# Altium integrated library Maxim Analog Comparator.IntLib: 215 symbols (part 5 of 5)
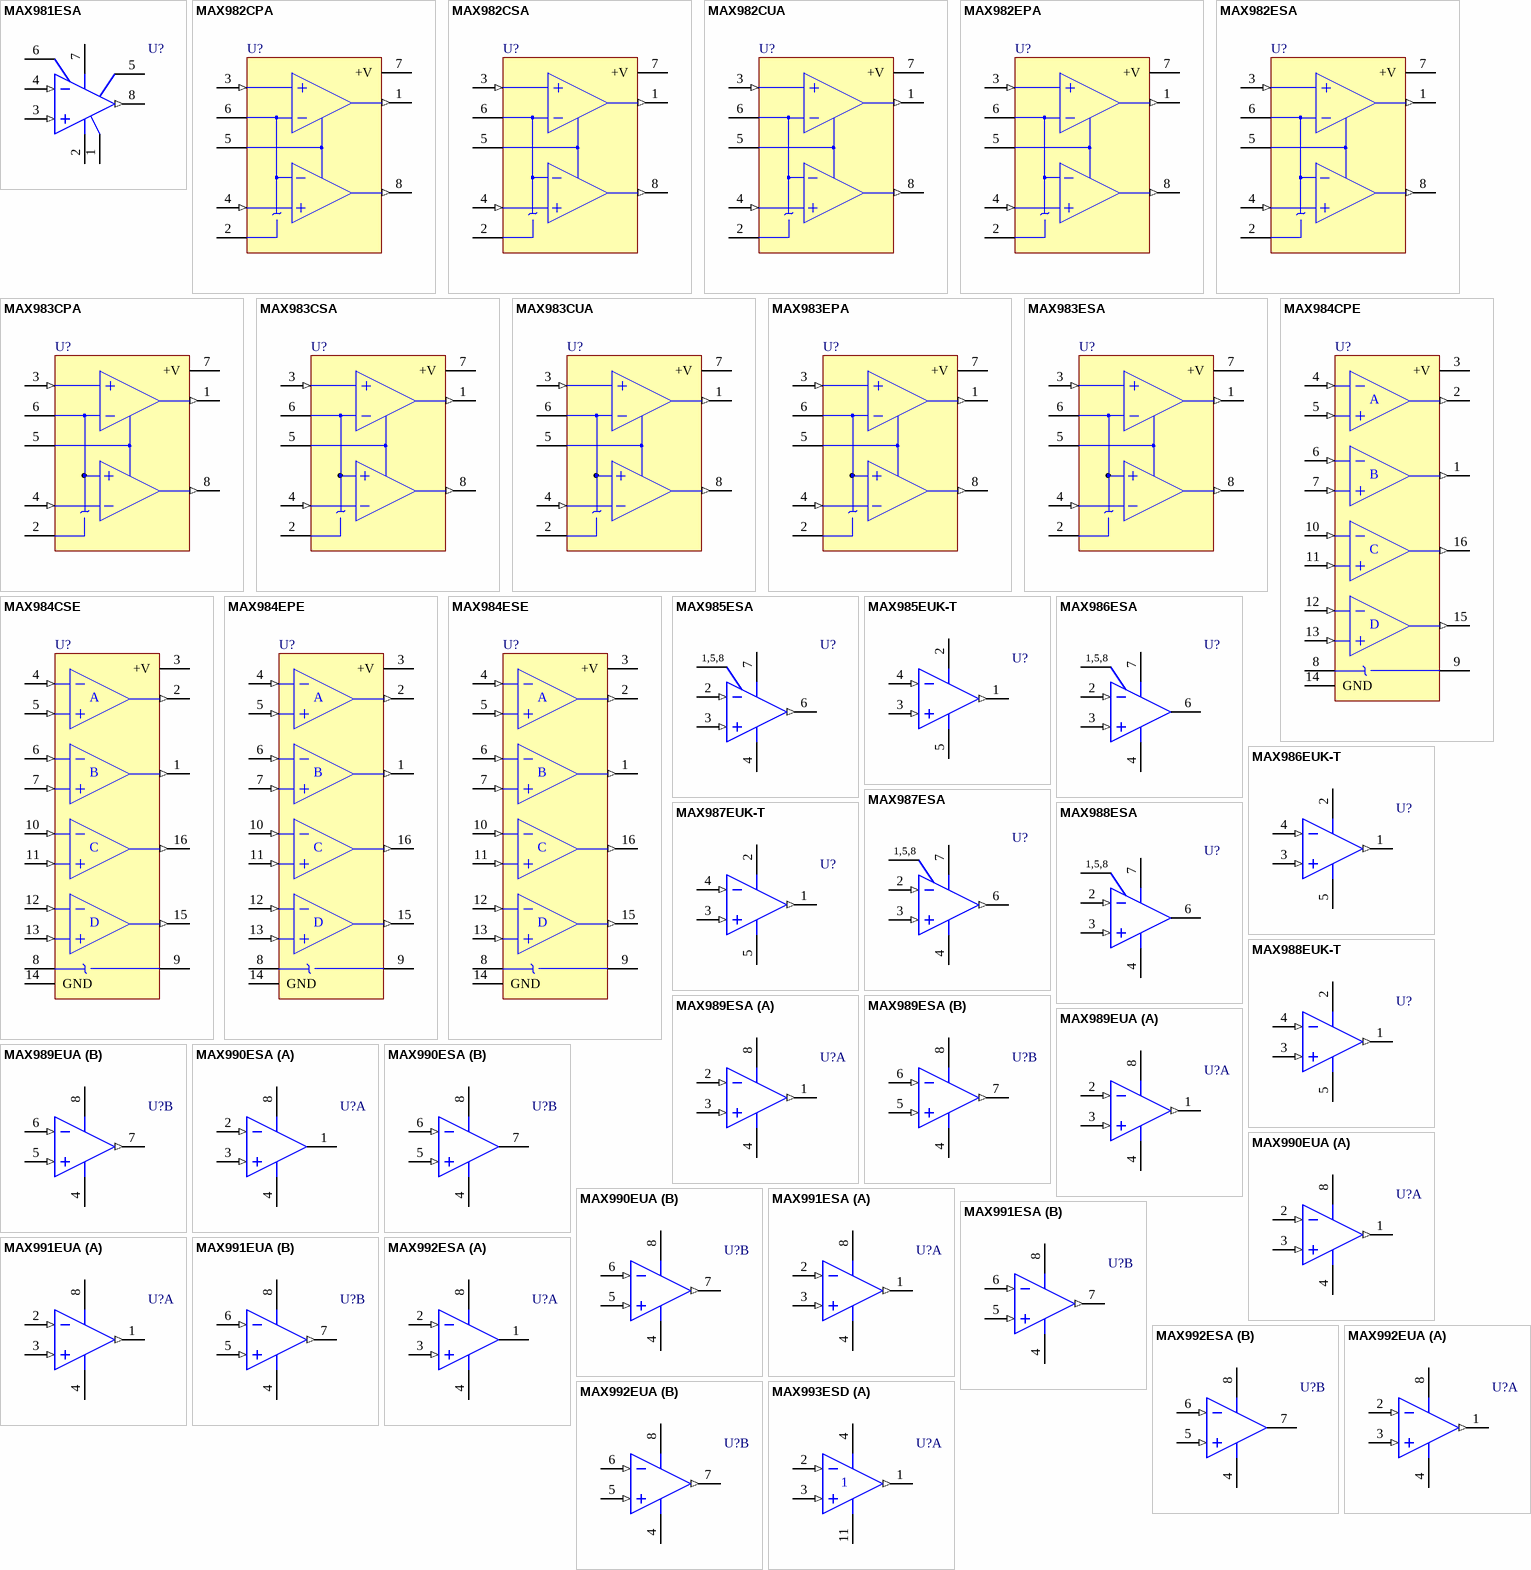
[diagram p13: symbols MAX981ESA to MAX993ESD]

## MAX990EUA
designator U?
Micropower, Low-Voltage, SOT23, Rail-to-Rail I/O Comparator; Published: 23-Sep-2002; LatestRevisionDate: 29-May-2009; LatestRevisionNote: IPC-7351 Footprint Added.; DatasheetVersion: Rev 1; 7/97; PackageReference: UMAX8; Publisher: Altium Limited; PackageDescription: 8-Pin Thin Small Outline Package 0.65 mm Pitch; ComponentLink1Description: Manufacturer Link; ComponentLink1URL: http://www.maxim-ic.com/; ComponentLink2Description: Datasheet; ComponentLink2URL: http://pdfserv.maxim-ic.com/en/ds/MAX985-MAX994.pdf
footprint UMAX8_N (TSOP, 8-Leads, Body 3x3mm, Pitch 0.65mm, IPC Medium Density)
footprint UMAX8_L (TSOP, 8-Leads, Body 3x3mm, Pitch 0.65mm, IPC High Density)
footprint UMAX8_M (TSOP, 8-Leads, Body 3x3mm, Pitch 0.65mm, IPC Low Density)
3D model UMAX8 (8-Pin Thin Small Outline Package 0.65 mm Pitch)
simulation model MAX990 (SUBCKT)
pins on every part: 4 VEE (power), 8 VCC (power)
part A pins: 1 OUT (out), 2 IN- (in), 3 IN+ (in)
part B pins: 5 IN+ (in), 6 IN- (in), 7 OUT (out)

## MAX991ESA
designator U?
High-Speed, Micropower, Low-Voltage, SOT23, Rail-to-Rail I/O Comparator; Published: 23-Sep-2002; LatestRevisionDate: 13-Apr-2006; LatestRevisionNote: IPC-7351 Footprint Added.; DatasheetVersion: Rev 0b; 7/97; PackageReference: NSO8; Publisher: Altium Limited; PackageDescription: 8-Pin Small Outline Integrated Circuit 1.27 mm Pitch; Code_JEDEC: MS-012-AA; Code_IPC: SOIC127P600-8; ComponentLink1Description: Manufacturer Link; ComponentLink1URL: http://www.maxim-ic.com/; ComponentLink2Description: Datasheet; ComponentLink2URL: http://pdfserv.maxim-ic.com/en/ds/MAX987-MAX996.pdf
footprint NSO8_N (SOIC, 8-Leads, Body 4.9x3.9mm, Pitch 1.27mm, IPC Medium Density)
footprint NSO8_L (SOIC, 8-Leads, Body 4.9x3.9mm, Pitch 1.27mm, IPC High Density)
footprint NSO8_M (SOIC, 8-Leads, Body 4.9x3.9mm, Pitch 1.27mm, IPC Low Density)
3D model NSO8 (8-Pin Small Outline Integrated Circuit 1.27 mm Pitch)
simulation model MAX991 (SUBCKT)
pins on every part: 4 VEE (power), 8 VCC (power)
part A pins: 1 OUT (out), 2 IN- (in), 3 IN+ (in)
part B pins: 5 IN+ (in), 6 IN- (in), 7 OUT (out)

## MAX991EUA
designator U?
High-Speed, Micropower, Low-Voltage, SOT23, Rail-to-Rail I/O Comparator; Published: 23-Sep-2002; LatestRevisionDate: 29-May-2009; LatestRevisionNote: IPC-7351 Footprint Added.; DatasheetVersion: Rev 0b; 7/97; PackageReference: UMAX8; Publisher: Altium Limited; PackageDescription: 8-Pin Thin Small Outline Package 0.65 mm Pitch; ComponentLink1Description: Manufacturer Link; ComponentLink1URL: http://www.maxim-ic.com/; ComponentLink2Description: Datasheet; ComponentLink2URL: http://pdfserv.maxim-ic.com/en/ds/MAX987-MAX996.pdf
footprint UMAX8_N (TSOP, 8-Leads, Body 3x3mm, Pitch 0.65mm, IPC Medium Density)
footprint UMAX8_L (TSOP, 8-Leads, Body 3x3mm, Pitch 0.65mm, IPC High Density)
footprint UMAX8_M (TSOP, 8-Leads, Body 3x3mm, Pitch 0.65mm, IPC Low Density)
3D model UMAX8 (8-Pin Thin Small Outline Package 0.65 mm Pitch)
simulation model MAX991 (SUBCKT)
pins on every part: 4 VEE (power), 8 VCC (power)
part A pins: 1 OUT (out), 2 IN- (in), 3 IN+ (in)
part B pins: 5 IN+ (in), 6 IN- (in), 7 OUT (out)

## MAX992ESA
designator U?
High-Speed, Micropower, Low-Voltage, SOT23, Rail-to-Rail I/O Comparator; Published: 23-Sep-2002; LatestRevisionDate: 13-Apr-2006; LatestRevisionNote: IPC-7351 Footprint Added.; DatasheetVersion: Rev 0b; 7/97; PackageReference: NSO8; Publisher: Altium Limited; PackageDescription: 8-Pin Small Outline Integrated Circuit 1.27 mm Pitch; Code_JEDEC: MS-012-AA; Code_IPC: SOIC127P600-8; ComponentLink1Description: Manufacturer Link; ComponentLink1URL: http://www.maxim-ic.com/; ComponentLink2Description: Datasheet; ComponentLink2URL: http://pdfserv.maxim-ic.com/en/ds/MAX987-MAX996.pdf
footprint NSO8_N (SOIC, 8-Leads, Body 4.9x3.9mm, Pitch 1.27mm, IPC Medium Density)
footprint NSO8_L (SOIC, 8-Leads, Body 4.9x3.9mm, Pitch 1.27mm, IPC High Density)
footprint NSO8_M (SOIC, 8-Leads, Body 4.9x3.9mm, Pitch 1.27mm, IPC Low Density)
3D model NSO8 (8-Pin Small Outline Integrated Circuit 1.27 mm Pitch)
simulation model MAX992 (SUBCKT)
pins on every part: 4 GND (power), 8 VCC (power)
part A pins: 1 OUT (oc), 2 IN- (in), 3 IN+ (in)
part B pins: 5 IN+ (in), 6 IN- (in), 7 OUT (oc)

## MAX992EUA
designator U?
High-Speed, Micropower, Low-Voltage, SOT23, Rail-to-Rail I/O Comparator; Published: 23-Sep-2002; LatestRevisionDate: 29-May-2009; LatestRevisionNote: IPC-7351 Footprint Added.; DatasheetVersion: Rev 0b; 7/97; PackageReference: UMAX8; Publisher: Altium Limited; PackageDescription: 8-Pin Thin Small Outline Package 0.65 mm Pitch; ComponentLink1Description: Manufacturer Link; ComponentLink1URL: http://www.maxim-ic.com/; ComponentLink2Description: Datasheet; ComponentLink2URL: http://pdfserv.maxim-ic.com/en/ds/MAX987-MAX996.pdf
footprint UMAX8_N (TSOP, 8-Leads, Body 3x3mm, Pitch 0.65mm, IPC Medium Density)
footprint UMAX8_L (TSOP, 8-Leads, Body 3x3mm, Pitch 0.65mm, IPC High Density)
footprint UMAX8_M (TSOP, 8-Leads, Body 3x3mm, Pitch 0.65mm, IPC Low Density)
3D model UMAX8 (8-Pin Thin Small Outline Package 0.65 mm Pitch)
simulation model MAX992 (SUBCKT)
pins on every part: 4 VEE (power), 8 VCC (power)
part A pins: 1 OUT (out), 2 IN- (in), 3 IN+ (in)
part B pins: 5 IN+ (in), 6 IN- (in), 7 OUT (out)

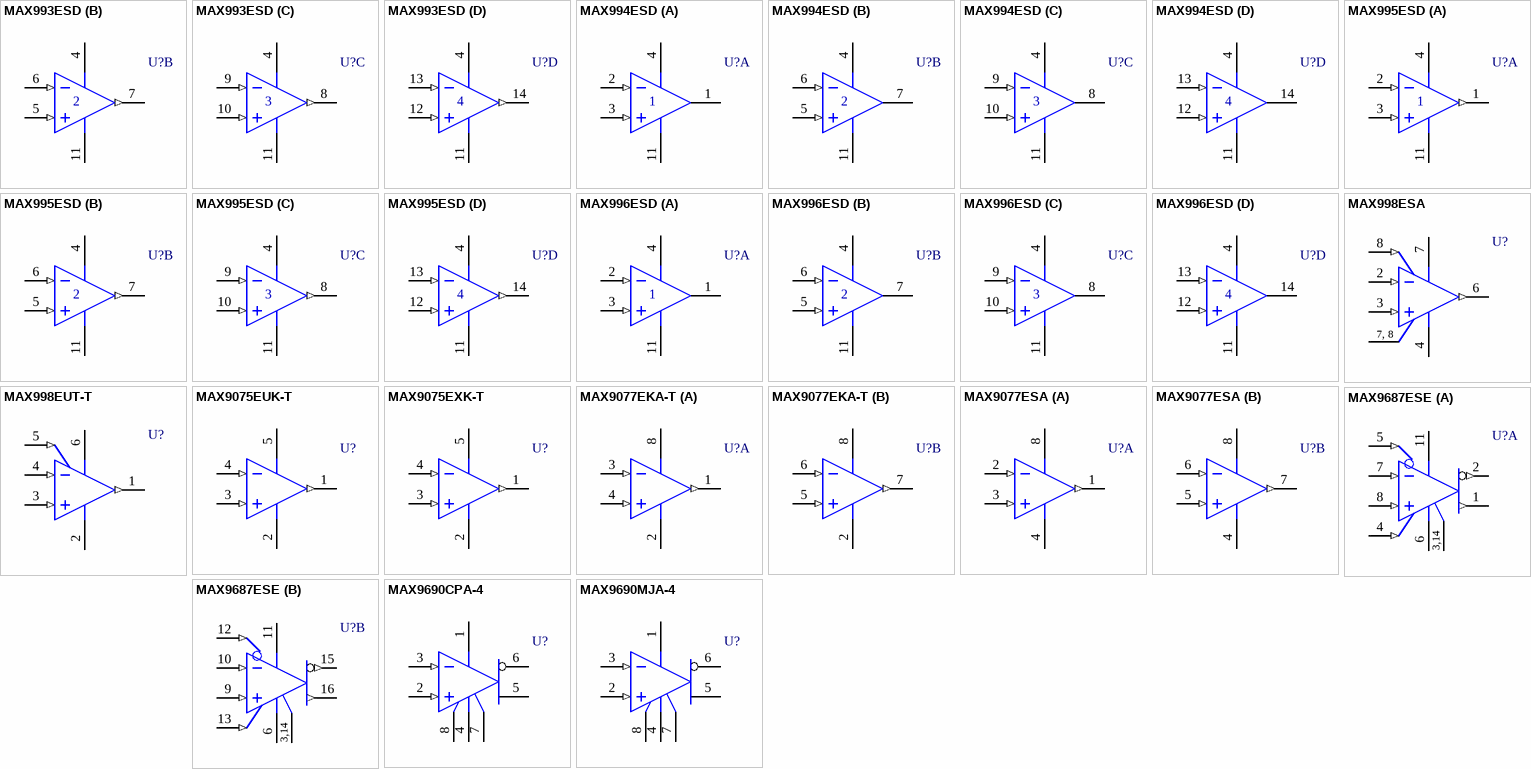
[diagram p9: symbols MAX993ESD to MAX9690MJA-4]

## MAX993ESD
designator U?
Micropower, Low-Voltage, SOT23, Rail-to-Rail I/O Comparator; Published: 23-Sep-2002; LatestRevisionDate: 13-Apr-2006; LatestRevisionNote: IPC-7351 Footprint Added.; DatasheetVersion: Rev 1; 7/97; PackageReference: NSO14; Publisher: Altium Limited; PackageDescription: 14-Pin Small Outline Integrated Circuit 1.27 mm Pitch; Code_JEDEC: MS-012-AB; Code_IPC: SOIC127P600-14; ComponentLink1Description: Manufacturer Link; ComponentLink1URL: http://www.maxim-ic.com/; ComponentLink2Description: Datasheet; ComponentLink2URL: http://pdfserv.maxim-ic.com/en/ds/MAX985-MAX994.pdf
footprint NSO14_N (SOIC, 14-Leads, Body 8.7x3.9mm, Pitch 1.27mm, IPC Medium Density)
footprint NSO14_L (SOIC, 14-Leads, Body 8.7x3.9mm, Pitch 1.27mm, IPC High Density)
footprint NSO14_M (SOIC, 14-Leads, Body 8.7x3.9mm, Pitch 1.27mm, IPC Low Density)
3D model NSO14 (14-Pin Small Outline Integrated Circuit 1.27 mm Pitch)
simulation model MAX993 (SUBCKT)
pins on every part: 4 VCC (power), 11 VEE (power)
part A pins: 1 OUT (out), 2 IN- (in), 3 IN+ (in)
part B pins: 5 IN+ (in), 6 IN- (in), 7 OUT (out)
part C pins: 8 OUT (out), 9 IN- (in), 10 IN+ (in)
part D pins: 12 IN+ (in), 13 IN- (in), 14 OUT (out)

## MAX994ESD
designator U?
Micropower, Low-Voltage, SOT23, Rail-to-Rail I/O Comparator; Published: 23-Sep-2002; LatestRevisionDate: 13-Apr-2006; LatestRevisionNote: IPC-7351 Footprint Added.; DatasheetVersion: Rev 1; 7/97; PackageReference: NSO14; Publisher: Altium Limited; PackageDescription: 14-Pin Small Outline Integrated Circuit 1.27 mm Pitch; Code_JEDEC: MS-012-AB; Code_IPC: SOIC127P600-14; ComponentLink1Description: Manufacturer Link; ComponentLink1URL: http://www.maxim-ic.com/; ComponentLink2Description: Datasheet; ComponentLink2URL: http://pdfserv.maxim-ic.com/en/ds/MAX985-MAX994.pdf
footprint NSO14_N (SOIC, 14-Leads, Body 8.7x3.9mm, Pitch 1.27mm, IPC Medium Density)
footprint NSO14_L (SOIC, 14-Leads, Body 8.7x3.9mm, Pitch 1.27mm, IPC High Density)
footprint NSO14_M (SOIC, 14-Leads, Body 8.7x3.9mm, Pitch 1.27mm, IPC Low Density)
3D model NSO14 (14-Pin Small Outline Integrated Circuit 1.27 mm Pitch)
simulation model MAX994 (SUBCKT)
pins on every part: 4 VCC (power), 11 VEE (power)
part A pins: 1 OUT (oc), 2 IN- (in), 3 IN+ (in)
part B pins: 5 IN+ (in), 6 IN- (in), 7 OUT (oc)
part C pins: 8 OUT (oc), 9 IN- (in), 10 IN+ (in)
part D pins: 12 IN+ (in), 13 IN- (in), 14 OUT (oc)

## MAX995ESD
designator U?
High-Speed, Micropower, Low-Voltage, SOT23, Rail-to-Rail I/O Comparator; Published: 23-Sep-2002; LatestRevisionDate: 13-Apr-2006; LatestRevisionNote: IPC-7351 Footprint Added.; DatasheetVersion: Rev 0b; 7/97; PackageReference: NSO14; Publisher: Altium Limited; PackageDescription: 14-Pin Small Outline Integrated Circuit 1.27 mm Pitch; Code_JEDEC: MS-012-AB; Code_IPC: SOIC127P600-14; ComponentLink1Description: Manufacturer Link; ComponentLink1URL: http://www.maxim-ic.com/; ComponentLink2Description: Datasheet; ComponentLink2URL: http://pdfserv.maxim-ic.com/en/ds/MAX987-MAX996.pdf
footprint NSO14_N (SOIC, 14-Leads, Body 8.7x3.9mm, Pitch 1.27mm, IPC Medium Density)
footprint NSO14_L (SOIC, 14-Leads, Body 8.7x3.9mm, Pitch 1.27mm, IPC High Density)
footprint NSO14_M (SOIC, 14-Leads, Body 8.7x3.9mm, Pitch 1.27mm, IPC Low Density)
3D model NSO14 (14-Pin Small Outline Integrated Circuit 1.27 mm Pitch)
simulation model MAX995 (SUBCKT)
pins on every part: 4 VCC (power), 11 VEE (power)
part A pins: 1 OUT (out), 2 IN- (in), 3 IN+ (in)
part B pins: 5 IN+ (in), 6 IN- (in), 7 OUT (out)
part C pins: 8 OUT (out), 9 IN- (in), 10 IN+ (in)
part D pins: 12 IN+ (in), 13 IN- (in), 14 OUT (out)

## MAX996ESD
designator U?
High-Speed, Micropower, Low-Voltage, SOT23, Rail-to-Rail I/O Comparator; Published: 23-Sep-2002; LatestRevisionDate: 13-Apr-2006; LatestRevisionNote: IPC-7351 Footprint Added.; DatasheetVersion: Rev 0b; 7/97; PackageReference: NSO14; Publisher: Altium Limited; PackageDescription: 14-Pin Small Outline Integrated Circuit 1.27 mm Pitch; Code_JEDEC: MS-012-AB; Code_IPC: SOIC127P600-14; ComponentLink1Description: Manufacturer Link; ComponentLink1URL: http://www.maxim-ic.com/; ComponentLink2Description: Datasheet; ComponentLink2URL: http://pdfserv.maxim-ic.com/en/ds/MAX987-MAX996.pdf
footprint NSO14_N (SOIC, 14-Leads, Body 8.7x3.9mm, Pitch 1.27mm, IPC Medium Density)
footprint NSO14_L (SOIC, 14-Leads, Body 8.7x3.9mm, Pitch 1.27mm, IPC High Density)
footprint NSO14_M (SOIC, 14-Leads, Body 8.7x3.9mm, Pitch 1.27mm, IPC Low Density)
3D model NSO14 (14-Pin Small Outline Integrated Circuit 1.27 mm Pitch)
simulation model MAX995 (SUBCKT)
pins on every part: 4 VCC (power), 11 VEE (power)
part A pins: 1 OUT (oc), 2 IN- (in), 3 IN+ (in)
part B pins: 5 IN+ (in), 6 IN- (in), 7 OUT (oc)
part C pins: 8 OUT (oc), 9 IN- (in), 10 IN+ (in)
part D pins: 12 IN+ (in), 13 IN- (in), 14 OUT (oc)

## MAX998ESA
designator U?
Single, SOT23, Single-Supply, High-Speed, Low-Power Comparator; Published: 23-Sep-2002; LatestRevisionDate: 13-Apr-2006; LatestRevisionNote: IPC-7351 Footprint Added.; DatasheetVersion: Rev 1; 1/98; PackageReference: NSO8; Publisher: Altium Limited; PackageDescription: 8-Pin Small Outline Integrated Circuit 1.27 mm Pitch; Code_JEDEC: MS-012-AA; Code_IPC: SOIC127P600-8; ComponentLink1Description: Manufacturer Link; ComponentLink1URL: http://www.maxim-ic.com/; ComponentLink2Description: Datasheet; ComponentLink2URL: http://pdfserv.maxim-ic.com/en/ds/MAX976-MAX998.pdf
footprint NSO8_N (SOIC, 8-Leads, Body 4.9x3.9mm, Pitch 1.27mm, IPC Medium Density)
footprint NSO8_L (SOIC, 8-Leads, Body 4.9x3.9mm, Pitch 1.27mm, IPC High Density)
footprint NSO8_M (SOIC, 8-Leads, Body 4.9x3.9mm, Pitch 1.27mm, IPC Low Density)
3D model NSO8 (8-Pin Small Outline Integrated Circuit 1.27 mm Pitch)
simulation model MAX998 (SUBCKT)
pins: 1 NC, 2 IN- (in), 3 IN+ (in), 4 GND (power), 5 NC, 6 OUT (out), 7 VCC (power), 8 ~{SHDN} (in)
text: 7, 8

## MAX998EUT-T
designator U?
Single, SOT23, Single-Supply, High-Speed, Low-Power Comparator; Published: 23-Sep-2002; LatestRevisionDate: 29-May-2009; LatestRevisionNote: IPC-7351 Footprint Added.; DatasheetVersion: Rev 1; 1/98; PackageVersion: Aug-1998; PackageReference: SOT23-6; Publisher: Altium Limited; PackageDescription: 6-Pin SOT-23 Package 0.95 mm Pitch, 2.8 mm Lead Span; Code_IPC: SOT26A-6; ComponentLink1Description: Manufacturer Link; ComponentLink1URL: http://www.maxim-ic.com/; ComponentLink2Description: Datasheet; ComponentLink2URL: http://pdfserv.maxim-ic.com/en/ds/MAX976-MAX998.pdf
footprint SOT23-6_N (SOT23, 6-Leads, Body 2.9x1.6mm, Pitch 0.95mm, Lead Span 2.8mm, IPC Medium Density)
footprint SOT23-6_L (SOT23, 6-Leads, Body 2.9x1.6mm, Pitch 0.95mm, Lead Span 2.8mm, IPC High Density)
footprint SOT23-6_M (SOT23, 6-Leads, Body 2.9x1.6mm, Pitch 0.95mm, Lead Span 2.8mm, IPC Low Density)
simulation model MAX998 (SUBCKT)
pins: 1 OUT (out), 2 GND (power), 3 IN+ (in), 4 IN- (in), 5 ~{SHDN} (in), 6 VCC (power)

## MAX9075EUK-T
designator U?
Low-Cost, Ultra-Small, 3µA Single-Supply Comparator; Published: 16-Jan-2001; LatestRevisionDate: 29-May-2009; LatestRevisionNote: IPC-7351 Footprint Added.; DatasheetVersion: Oct-1999; PackageVersion: revE, 2004; PackageReference: SOT23-5; Publisher: Altium Limited; PackageDescription: 5-Pin SOT-23 Package 0.95 mm Pitch, 2.8 mm Lead Span; Code_JEITA: SC-74A; Code_IPC: SOT23-5; ComponentLink1Description: Manufacturer Link; ComponentLink1URL: http://www.maxim-ic.com/; ComponentLink2Description: Datasheet; ComponentLink2URL: http://pdfserv.maxim-ic.com/en/ds/MAX9075-MAX9077.pdf
footprint SOT23-5_N (SOT23, 5-Leads, Body 2.9x1.6mm, Pitch 0.95mm, Lead Span 2.8mm, IPC Medium Density)
footprint SOT23-5_L (SOT23, 5-Leads, Body 2.9x1.6mm, Pitch 0.95mm, Lead Span 2.8mm, IPC High Density)
footprint SOT23-5_M (SOT23, 5-Leads, Body 2.9x1.6mm, Pitch 0.95mm, Lead Span 2.8mm, IPC Low Density)
pins: 1 OUT (out), 2 GND (power), 3 IN+ (in), 4 IN- (in), 5 V+ (power)

## MAX9075EXK-T
designator U?
Low-Cost, Ultra-Small, 3µA Single-Supply Comparator; Published: 16-Jan-2001; LatestRevisionDate: 29-May-2009; LatestRevisionNote: IPC-7351 Footprint Added.; DatasheetVersion: Oct-1999; PackageVersion: Oct-1999; PackageReference: SC70-5; Publisher: Altium Limited; PackageDescription: 5-Pin SOT-353 Package 0.65 mm Pitch, 2.1 mm Lead Span; Code_JEITA: SC-88A; Code_JEDEC: MO-203-AA; ComponentLink1Description: Manufacturer Link; ComponentLink1URL: http://www.maxim-ic.com/; ComponentLink2Description: Datasheet; ComponentLink2URL: http://pdfserv.maxim-ic.com/en/ds/MAX9075-MAX9077.pdf
footprint SC70-5_N (SOT353, 5-Leads, Body 2x1.3mm, Pitch 0.65mm, Lead Span 2.1mm, IPC Medium Density)
footprint SC70-5_L (SOT353, 5-Leads, Body 2x1.3mm, Pitch 0.65mm, Lead Span 2.1mm, IPC High Density)
footprint SC70-5_M (SOT353, 5-Leads, Body 2x1.3mm, Pitch 0.65mm, Lead Span 2.1mm, IPC Low Density)
pins: 1 OUT (out), 2 GND (power), 3 IN+ (in), 4 IN- (in), 5 V+ (power)

## MAX9077EKA-T
designator U?
Low-Cost, Ultra-Small, 3µA Single-Supply Comparator; Published: 16-Jan-2001; LatestRevisionDate: 29-May-2009; LatestRevisionNote: IPC-7351 Footprint Added.; DatasheetVersion: Oct-1999; PackageVersion: revH; PackageReference: SOT23-8; Publisher: Altium Limited; PackageDescription: 8-Pin Small Outline Package 0.65 mm Pitch; Code_JEDEC: MO-178; ComponentLink1Description: Manufacturer Link; ComponentLink1URL: http://www.maxim-ic.com/; ComponentLink2Description: Datasheet; ComponentLink2URL: http://pdfserv.maxim-ic.com/en/ds/MAX9075-MAX9077.pdf
footprint SOT23-8_N (SOP, 8-Leads, Body 2.9x1.6mm, Pitch 0.65mm, IPC Medium Density)
footprint SOT23-8_L (SOP, 8-Leads, Body 2.9x1.6mm, Pitch 0.65mm, IPC High Density)
footprint SOT23-8_M (SOP, 8-Leads, Body 2.9x1.6mm, Pitch 0.65mm, IPC Low Density)
pins on every part: 2 GND (power), 8 V+ (power)
part A pins: 1 OUT (out), 3 IN- (in), 4 IN+ (in)
part B pins: 5 IN+ (in), 6 IN- (in), 7 OUT (out)

## MAX9077ESA
designator U?
Low-Cost, Ultra-Small, 3µA Single-Supply Comparator; Published: 16-Jan-2001; LatestRevisionDate: 13-Apr-2006; LatestRevisionNote: IPC-7351 Footprint Added.; DatasheetVersion: Oct-1999; PackageReference: NSO8; Publisher: Altium Limited; PackageDescription: 8-Pin Small Outline Integrated Circuit 1.27 mm Pitch; Code_JEDEC: MS-012-AA; Code_IPC: SOIC127P600-8; ComponentLink1Description: Manufacturer Link; ComponentLink1URL: http://www.maxim-ic.com/; ComponentLink2Description: Datasheet; ComponentLink2URL: http://pdfserv.maxim-ic.com/en/ds/MAX9075-MAX9077.pdf
footprint NSO8_N (SOIC, 8-Leads, Body 4.9x3.9mm, Pitch 1.27mm, IPC Medium Density)
footprint NSO8_L (SOIC, 8-Leads, Body 4.9x3.9mm, Pitch 1.27mm, IPC High Density)
footprint NSO8_M (SOIC, 8-Leads, Body 4.9x3.9mm, Pitch 1.27mm, IPC Low Density)
3D model NSO8 (8-Pin Small Outline Integrated Circuit 1.27 mm Pitch)
pins on every part: 4 GND (power), 8 V+ (power)
part A pins: 1 OUT (out), 2 IN- (in), 3 IN+ (in)
part B pins: 5 IN+ (in), 6 IN- (in), 7 OUT (out)

## MAX9687ESE
designator U?
Dual, Ultra-Fast ECL-Output Comparator; Published: 16-Jan-2001; LatestRevisionDate: 13-Apr-2006; LatestRevisionNote: IPC-7351 Footprint Added.; DatasheetVersion: Jul-1993; PackageReference: NSO16; Publisher: Altium Limited; PackageDescription: 16-Pin Small Outline Integrated Circuit 1.27 mm Pitch; Code_JEDEC: MS-012-AC; Code_IPC: SOIC127P600-16; ComponentLink1Description: Manufacturer Link; ComponentLink1URL: http://www.maxim-ic.com/
footprint NSO16_N (SOIC, 16-Leads, Body 9.9x3.9mm, Pitch 1.27mm, IPC Medium Density)
footprint NSO16_L (SOIC, 16-Leads, Body 9.9x3.9mm, Pitch 1.27mm, IPC High Density)
footprint NSO16_M (SOIC, 16-Leads, Body 9.9x3.9mm, Pitch 1.27mm, IPC Low Density)
3D model NSO16 (16-Pin Small Outline Integrated Circuit 1.27 mm Pitch)
pins on every part: 3 GND (power), 6 V- (power), 11 V+ (power), 14 GND (power)
part A pins: 1 Q (out), 2 ~{Q} (out), 4 LE (in), 5 ~{LE} (in), 7 IN- (in), 8 IN+ (in)
part B pins: 9 IN+ (in), 10 IN- (in), 12 ~{LE} (in), 13 LE (in), 15 ~{Q} (out), 16 Q (out)
part A text: 3,14
part B text: 3,14

## MAX9690CPA-4
designator U?
Ultra-Fast ECL-Output Comparator; Published: 16-Jan-2001; LatestRevisionDate: 29-May-2009; LatestRevisionNote: Component Body Added.; DatasheetVersion: Mar-1997; PackageVersion: RevB, 21-0043; PackageReference: PA8; Publisher: Altium Limited; PackageDescription: DIP, 8-Pin, Row Spacing 7.62 mm, Pitch 2.54 mm; Code_JEDEC: MS-001-AB; ComponentLink1Description: Manufacturer Link; ComponentLink1URL: http://www.maxim-ic.com/
footprint PA8 (DIP, 8-Leads, Row Spacing 7.62mm, Pitch 2.54mm, Body 9.38x7.24mm)
3D model PA8 (DIP, 8-Pin, Row Spacing 7.62 mm, Pitch 2.54 mm)
pins: 1 V+ (power), 2 IN+ (in), 3 IN- (in), 4 V- (power), 5 Q (oe), 6 ~{Q} (oe), 7 GND2 (power), 8 GND1 (power)

## MAX9690MJA-4
designator U?
Ultra-Fast ECL-Output Comparator; Published: 16-Jan-2001; LatestRevisionDate: 29-May-2009; LatestRevisionNote: Component Body Added.; DatasheetVersion: Mar-1997; PackageVersion: 1996; PackageReference: JA8; Publisher: Altium Limited; PackageDescription: DIP, 8-Pin, Row Spacing 7.62 mm, Pitch 2.54 mm; ComponentLink1Description: Manufacturer Link; ComponentLink1URL: http://www.maxim-ic.com/
footprint JA8 (DIP, 8-Leads, Row Spacing 7.62mm, Pitch 2.54mm, Body 9.91x6.73mm)
3D model PA8 (DIP, 8-Pin, Row Spacing 7.62 mm, Pitch 2.54 mm)
pins: 1 V+ (power), 2 IN+ (in), 3 IN- (in), 4 V- (power), 5 Q (oe), 6 ~{Q} (oe), 7 GND2 (power), 8 GND1 (power)